# Altium schematic symbol library Components - 22.04.20 - 02.13.SchLib: 1 symbol
Pins are listed as number, name and electrical type; pins without a type are passive.

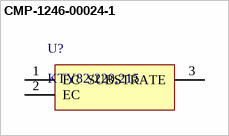
[diagram p0: symbol CMP-1246-00024-1]

## CMP-1246-00024-1
designator U?, comment KTY82/220,215
Silicon Temperature Sensor, 2000 Ohm R25, 3392 Ohm R100, -55 to 150 degC, 3-Pin SOT23, RoHS, Tape & Reel; Manufacturer: NXP Semiconductors; R25 (Ohm): 2000; R100 (Ohm): 3392; ComponentLink3URL: http://www.nxp.com/documents/outline_drawing/sot023_po.pdf; PackageReference: SOT23; Code_JEDEC: TO-236AB; Packing: Tape & Reel; ComponentLink3Description: Package Specification; ComponentLink2Description: Datasheet; ComponentLink1Description: Manufacturer URL; DatasheetVersion: Rev. 04; PartNumber: KTY82/220,215; PackageDescription: 3-Pin Plastic Surface Mounted Package, Body 2.9 x 1.3 mm, Pitch 0.95 mm; ComponentLink2URL: http://www.nxp.com/documents/data_sheet/KTY82_SER.pdf; Mounting Technology: Surface Mount; PackageVersion: 06-03-16, 03/2006; ComponentLink1URL: http://www.nxp.com/
footprint NXP-SOT23_M (SOT23, 3-Leads, Body 3x1.4mm, Pitch 0.95mm, IPC Low Density)
footprint NXP-SOT23_L (SOT23, 3-Leads, Body 3x1.4mm, Pitch 0.95mm, IPC High Density)
footprint NXP-SOT23_N (SOT23, 3-Leads, Body 3x1.4mm, Pitch 0.95mm, IPC Medium Density)
pins: 1 EC "electrical contact", 2 EC "electrical contact", 3 SUBSTRATE "substrate (must remain potential free)"